# Altium schematic symbol library Micro_USB.SchLib: 1 symbol
Pins are listed as number, name and electrical type; pins without a type are passive.

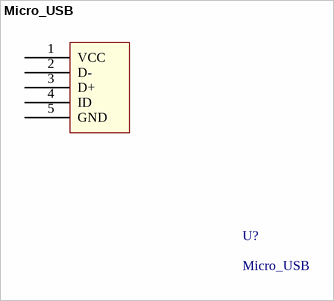
[diagram p0: symbol Micro_USB]

## Micro_USB
designator U?
pins: 1 VCC, 2 D-, 3 D+, 4 ID, 5 GND